# EAGLE library part MCP48FEB01-E (library custom)
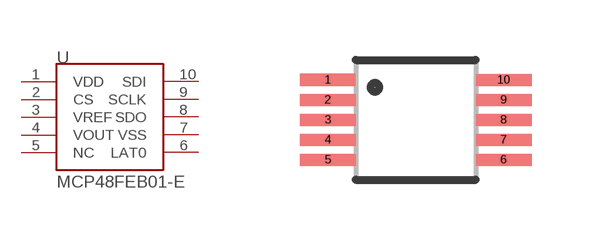
[diagram p0: symbol with the pads of 10-MSOP; footprint 10-MSOP]

Designator prefix -

## MCP48FEB01-E/UN  [10-MSOP]
1  VDD  pwr
2  CS  in
3  VREF  in
4  VOUT  out
5  NC  nc
6  LAT0
7  VSS
8  SDO  out
9  SCLK  in
10  SDI  in

## Footprint 10-MSOP (pad centres in mm)
smd 1.4 x 0.3: 1 -2.2,1; 2 -2.2,0.5; 3 -2.2,0; 4 -2.2,-0.5; 5 -2.2,-1; 6 2.2,-1; 7 2.2,-0.5; 8 2.2,0; 9 2.2,0.5; 10 2.2,1